# Altium footprint library Type-C.PcbLib: 15 footprints
Each footprint in its own frame and in the unit in brackets; x right, y up, seen from the top. Pads: shape width x height; smd on the part's side, far side on the other; paste and mask are expansions set on the pad; w line width, h text height; cw(c..) or ccw(c..) is an arc to the next point about the centre after c.
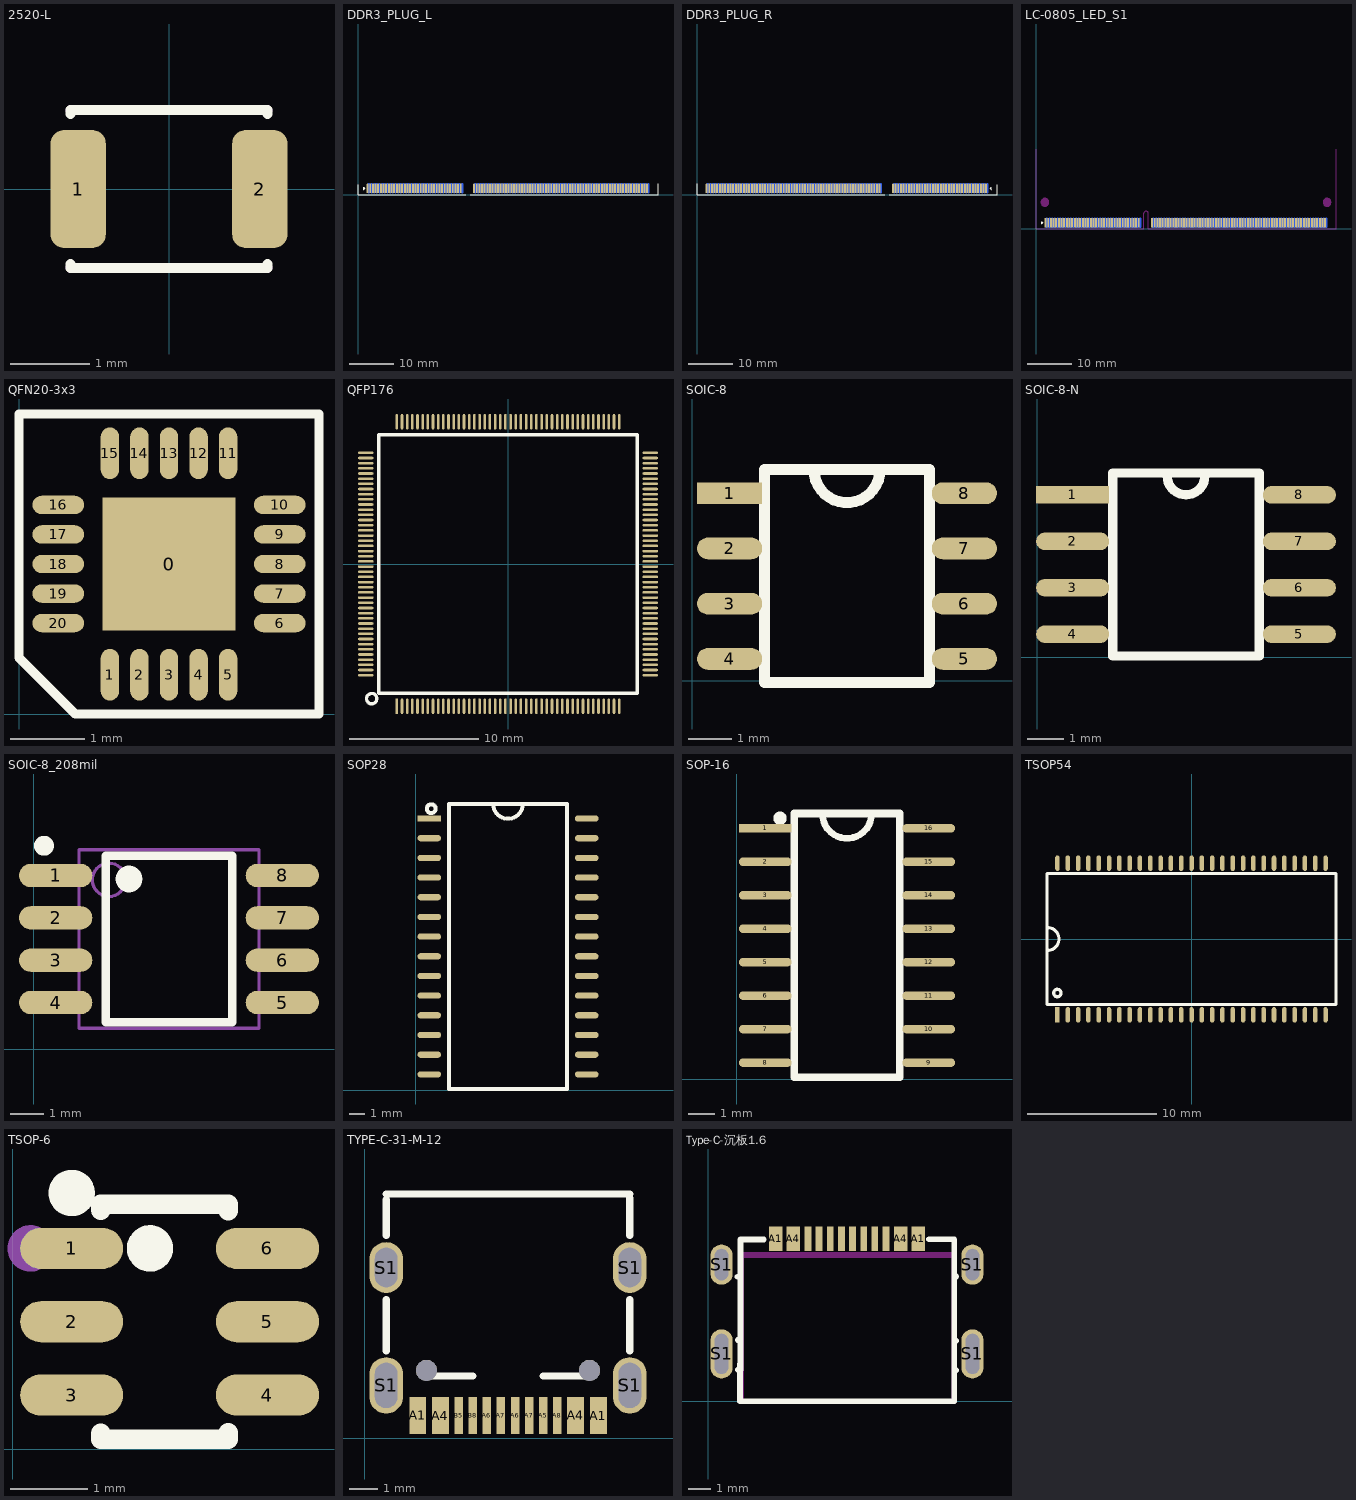
[diagram p0: the footprints below, top view; thin cyan lines are the x and y axes]

## 2520-L [mm]
height 0.8
pads (2):
  rrect50% 0.7x1.5 smd: 1(-1.15,0) 2(1.15,0)
Top Overlay:
  lines w0.127: -1.25,-0.95 -1.25,-1 1.25,-1 1.25,-0.95 ; -1.25,0.95 -1.25,1 1.25,1 1.25,0.95
Mechanical 1:
  lines w0.127: -1.25,-1 1.25,-1 ; -1.25,1 1.25,1
3D body "User Library-Chip InductorINDC2012X95N.STEP": height 0.92, standoff -0.03, extent -1,-0.6 1,0.6

## DDR3_PLUG_L [mm]
height 14.8
pads (204):
  oct 0.43x2.2 smd: 1(2.15,1.4) 3(2.75,1.4) 5(3.35,1.4) 7(3.95,1.4) 9(4.55,1.4) 11(5.15,1.4) 13(5.75,1.4) 15(6.35,1.4) 17(6.95,1.4) 19(7.55,1.4) 21(8.15,1.4) 23(8.75,1.4) 25(9.35,1.4) 27(9.95,1.4) 29(10.55,1.4) 31(11.15,1.4) 33(11.75,1.4) 35(12.35,1.4) 37(12.95,1.4) 39(13.55,1.4) 41(14.15,1.4) 43(14.75,1.4) 45(15.35,1.4) 47(15.95,1.4) 49(16.55,1.4) 51(17.15,1.4) 53(17.75,1.4) 55(18.35,1.4) 57(18.95,1.4) 59(19.55,1.4) 61(20.15,1.4) 63(20.75,1.4) 65(21.35,1.4) 67(21.95,1.4) 69(22.55,1.4) 71(23.15,1.4) 73(26.15,1.4) 75(26.75,1.4) 77(27.35,1.4) 79(27.95,1.4) 81(28.55,1.4) 83(29.15,1.4) 85(29.75,1.4) 87(30.35,1.4) 89(30.95,1.4) 91(31.55,1.4) 93(32.15,1.4) 95(32.75,1.4) 97(33.35,1.4) 99(33.95,1.4) 101(34.55,1.4) 103(35.15,1.4) 105(35.75,1.4) 107(36.35,1.4) 109(36.95,1.4) 111(37.55,1.4) 113(38.15,1.4) 115(38.75,1.4) 117(39.35,1.4) 119(39.95,1.4) 121(40.55,1.4) 123(41.15,1.4) 125(41.75,1.4) 127(42.35,1.4) 129(42.95,1.4) 131(43.55,1.4) 133(44.15,1.4) 135(44.75,1.4) 137(45.35,1.4) 139(45.95,1.4) 141(46.55,1.4) 143(47.15,1.4) 145(47.75,1.4) 147(48.35,1.4) 149(48.95,1.4) 151(49.55,1.4) 153(50.15,1.4) 155(50.75,1.4) 157(51.35,1.4) 159(51.95,1.4) 161(52.55,1.4) 163(53.15,1.4) 165(53.75,1.4) 167(54.35,1.4) 169(54.95,1.4) 171(55.55,1.4) 173(56.15,1.4) 175(56.75,1.4) 177(57.35,1.4) 179(57.95,1.4) 181(58.55,1.4) 183(59.15,1.4) 185(59.75,1.4) 187(60.35,1.4) 189(60.95,1.4) 191(61.55,1.4) 193(62.15,1.4) 195(62.75,1.4) 197(63.35,1.4) 199(63.95,1.4) 201(64.55,1.4) 203(65.15,1.4)
  oct 0.43x2.2 smd far side: 2(2.45,1.4) 4(3.05,1.4) 6(3.65,1.4) 8(4.25,1.4) 10(4.85,1.4) 12(5.45,1.4) 14(6.05,1.4) 16(6.65,1.4) 18(7.25,1.4) 20(7.85,1.4) 22(8.45,1.4) 24(9.05,1.4) 26(9.65,1.4) 28(10.25,1.4) 30(10.85,1.4) 32(11.45,1.4) 34(12.05,1.4) 36(12.65,1.4) 38(13.25,1.4) 40(13.85,1.4) 42(14.45,1.4) 44(15.05,1.4) 46(15.65,1.4) 48(16.25,1.4) 50(16.85,1.4) 52(17.45,1.4) 54(18.05,1.4) 56(18.65,1.4) 58(19.25,1.4) 60(19.85,1.4) 62(20.45,1.4) 64(21.05,1.4) 66(21.65,1.4) 68(22.25,1.4) 70(22.85,1.4) 72(23.45,1.4) 74(26.45,1.4) 76(27.05,1.4) 78(27.65,1.4) 80(28.25,1.4) 82(28.85,1.4) 84(29.45,1.4) 86(30.05,1.4) 88(30.65,1.4) 90(31.25,1.4) 92(31.85,1.4) 94(32.45,1.4) 96(33.05,1.4) 98(33.65,1.4) 100(34.25,1.4) 102(34.85,1.4) 104(35.45,1.4) 106(36.05,1.4) 108(36.65,1.4) 110(37.25,1.4) 112(37.85,1.4) 114(38.45,1.4) 116(39.05,1.4) 118(39.65,1.4) 120(40.25,1.4) 122(40.85,1.4) 124(41.45,1.4) 126(42.05,1.4) 128(42.65,1.4) 130(43.25,1.4) 132(43.85,1.4) 134(44.45,1.4) 136(45.05,1.4) 138(45.65,1.4) 140(46.25,1.4) 142(46.85,1.4) 144(47.45,1.4) 146(48.05,1.4) 148(48.65,1.4) 150(49.25,1.4) 152(49.85,1.4) 154(50.45,1.4) 156(51.05,1.4) 158(51.65,1.4) 160(52.25,1.4) 162(52.85,1.4) 164(53.45,1.4) 166(54.05,1.4) 168(54.65,1.4) 170(55.25,1.4) 172(55.85,1.4) 174(56.45,1.4) 176(57.05,1.4) 178(57.65,1.4) 180(58.25,1.4) 182(58.85,1.4) 184(59.45,1.4) 186(60.05,1.4) 188(60.65,1.4) 190(61.25,1.4) 192(61.85,1.4) 194(62.45,1.4) 196(63.05,1.4) 198(63.65,1.4) 200(64.25,1.4) 202(64.85,1.4) 204(65.45,1.4)
Top Overlay:
  lines w0.254: 0,2.184 0,0 24.3,0 ; 25.3,0 67.6,0 67.6,2.453 ; 1.245,1.118 1.524,1.397 1.245,1.676 1.245,1.118

## DDR3_PLUG_R [mm]
height 14.8
pads (204):
  oct 0.43x2.2 smd far side: 1(65.45,1.4) 3(64.85,1.4) 5(64.25,1.4) 7(63.65,1.4) 9(63.05,1.4) 11(62.45,1.4) 13(61.85,1.4) 15(61.25,1.4) 17(60.65,1.4) 19(60.05,1.4) 21(59.45,1.4) 23(58.85,1.4) 25(58.25,1.4) 27(57.65,1.4) 29(57.05,1.4) 31(56.45,1.4) 33(55.85,1.4) 35(55.25,1.4) 37(54.65,1.4) 39(54.05,1.4) 41(53.45,1.4) 43(52.85,1.4) 45(52.25,1.4) 47(51.65,1.4) 49(51.05,1.4) 51(50.45,1.4) 53(49.85,1.4) 55(49.25,1.4) 57(48.65,1.4) 59(48.05,1.4) 61(47.45,1.4) 63(46.85,1.4) 65(46.25,1.4) 67(45.65,1.4) 69(45.05,1.4) 71(44.45,1.4) 73(41.45,1.4) 75(40.85,1.4) 77(40.25,1.4) 79(39.65,1.4) 81(39.05,1.4) 83(38.45,1.4) 85(37.85,1.4) 87(37.25,1.4) 89(36.65,1.4) 91(36.05,1.4) 93(35.45,1.4) 95(34.85,1.4) 97(34.25,1.4) 99(33.65,1.4) 101(33.05,1.4) 103(32.45,1.4) 105(31.85,1.4) 107(31.25,1.4) 109(30.65,1.4) 111(30.05,1.4) 113(29.45,1.4) 115(28.85,1.4) 117(28.25,1.4) 119(27.65,1.4) 121(27.05,1.4) 123(26.45,1.4) 125(25.85,1.4) 127(25.25,1.4) 129(24.65,1.4) 131(24.05,1.4) 133(23.45,1.4) 135(22.85,1.4) 137(22.25,1.4) 139(21.65,1.4) 141(21.05,1.4) 143(20.45,1.4) 145(19.85,1.4) 147(19.25,1.4) 149(18.65,1.4) 151(18.05,1.4) 153(17.45,1.4) 155(16.85,1.4) 157(16.25,1.4) 159(15.65,1.4) 161(15.05,1.4) 163(14.45,1.4) 165(13.85,1.4) 167(13.25,1.4) 169(12.65,1.4) 171(12.05,1.4) 173(11.45,1.4) 175(10.85,1.4) 177(10.25,1.4) 179(9.65,1.4) 181(9.05,1.4) 183(8.45,1.4) 185(7.85,1.4) 187(7.25,1.4) 189(6.65,1.4) 191(6.05,1.4) 193(5.45,1.4) 195(4.85,1.4) 197(4.25,1.4) 199(3.65,1.4) 201(3.05,1.4) 203(2.45,1.4)
  oct 0.43x2.2 smd: 2(65.15,1.4) 4(64.55,1.4) 6(63.95,1.4) 8(63.35,1.4) 10(62.75,1.4) 12(62.15,1.4) 14(61.55,1.4) 16(60.95,1.4) 18(60.35,1.4) 20(59.75,1.4) 22(59.15,1.4) 24(58.55,1.4) 26(57.95,1.4) 28(57.35,1.4) 30(56.75,1.4) 32(56.15,1.4) 34(55.55,1.4) 36(54.95,1.4) 38(54.35,1.4) 40(53.75,1.4) 42(53.15,1.4) 44(52.55,1.4) 46(51.95,1.4) 48(51.35,1.4) 50(50.75,1.4) 52(50.15,1.4) 54(49.55,1.4) 56(48.95,1.4) 58(48.35,1.4) 60(47.75,1.4) 62(47.15,1.4) 64(46.55,1.4) 66(45.95,1.4) 68(45.35,1.4) 70(44.75,1.4) 72(44.15,1.4) 74(41.15,1.4) 76(40.55,1.4) 78(39.95,1.4) 80(39.35,1.4) 82(38.75,1.4) 84(38.15,1.4) 86(37.55,1.4) 88(36.95,1.4) 90(36.35,1.4) 92(35.75,1.4) 94(35.15,1.4) 96(34.55,1.4) 98(33.95,1.4) 100(33.35,1.4) 102(32.75,1.4) 104(32.15,1.4) 106(31.55,1.4) 108(30.95,1.4) 110(30.35,1.4) 112(29.75,1.4) 114(29.15,1.4) 116(28.55,1.4) 118(27.95,1.4) 120(27.35,1.4) 122(26.75,1.4) 124(26.15,1.4) 126(25.55,1.4) 128(24.95,1.4) 130(24.35,1.4) 132(23.75,1.4) 134(23.15,1.4) 136(22.55,1.4) 138(21.95,1.4) 140(21.35,1.4) 142(20.75,1.4) 144(20.15,1.4) 146(19.55,1.4) 148(18.95,1.4) 150(18.35,1.4) 152(17.75,1.4) 154(17.15,1.4) 156(16.55,1.4) 158(15.95,1.4) 160(15.35,1.4) 162(14.75,1.4) 164(14.15,1.4) 166(13.55,1.4) 168(12.95,1.4) 170(12.35,1.4) 172(11.75,1.4) 174(11.15,1.4) 176(10.55,1.4) 178(9.95,1.4) 180(9.35,1.4) 182(8.75,1.4) 184(8.15,1.4) 186(7.55,1.4) 188(6.95,1.4) 190(6.35,1.4) 192(5.75,1.4) 194(5.15,1.4) 196(4.55,1.4) 198(3.95,1.4) 200(3.35,1.4) 202(2.75,1.4) 204(2.15,1.4)
Top Overlay:
  lines w0.254: 0,2.453 0,0 42.3,0 ; 43.3,0 67.6,0 67.6,2.184 ; 66.076,1.397 66.355,1.676 66.355,1.118 66.076,1.397

## LC-0805_LED_S1 [mm]
height 14.8
pads (204):
  oct 0.43x2.2 smd: 1(2.15,1.4) 3(2.75,1.4) 5(3.35,1.4) 7(3.95,1.4) 9(4.55,1.4) 11(5.15,1.4) 13(5.75,1.4) 15(6.35,1.4) 17(6.95,1.4) 19(7.55,1.4) 21(8.15,1.4) 23(8.75,1.4) 25(9.35,1.4) 27(9.95,1.4) 29(10.55,1.4) 31(11.15,1.4) 33(11.75,1.4) 35(12.35,1.4) 37(12.95,1.4) 39(13.55,1.4) 41(14.15,1.4) 43(14.75,1.4) 45(15.35,1.4) 47(15.95,1.4) 49(16.55,1.4) 51(17.15,1.4) 53(17.75,1.4) 55(18.35,1.4) 57(18.95,1.4) 59(19.55,1.4) 61(20.15,1.4) 63(20.75,1.4) 65(21.35,1.4) 67(21.95,1.4) 69(22.55,1.4) 71(23.15,1.4) 73(26.15,1.4) 75(26.75,1.4) 77(27.35,1.4) 79(27.95,1.4) 81(28.55,1.4) 83(29.15,1.4) 85(29.75,1.4) 87(30.35,1.4) 89(30.95,1.4) 91(31.55,1.4) 93(32.15,1.4) 95(32.75,1.4) 97(33.35,1.4) 99(33.95,1.4) 101(34.55,1.4) 103(35.15,1.4) 105(35.75,1.4) 107(36.35,1.4) 109(36.95,1.4) 111(37.55,1.4) 113(38.15,1.4) 115(38.75,1.4) 117(39.35,1.4) 119(39.95,1.4) 121(40.55,1.4) 123(41.15,1.4) 125(41.75,1.4) 127(42.35,1.4) 129(42.95,1.4) 131(43.55,1.4) 133(44.15,1.4) 135(44.75,1.4) 137(45.35,1.4) 139(45.95,1.4) 141(46.55,1.4) 143(47.15,1.4) 145(47.75,1.4) 147(48.35,1.4) 149(48.95,1.4) 151(49.55,1.4) 153(50.15,1.4) 155(50.75,1.4) 157(51.35,1.4) 159(51.95,1.4) 161(52.55,1.4) 163(53.15,1.4) 165(53.75,1.4) 167(54.35,1.4) 169(54.95,1.4) 171(55.55,1.4) 173(56.15,1.4) 175(56.75,1.4) 177(57.35,1.4) 179(57.95,1.4) 181(58.55,1.4) 183(59.15,1.4) 185(59.75,1.4) 187(60.35,1.4) 189(60.95,1.4) 191(61.55,1.4) 193(62.15,1.4) 195(62.75,1.4) 197(63.35,1.4) 199(63.95,1.4) 201(64.55,1.4) 203(65.15,1.4)
  oct 0.43x2.2 smd far side: 2(2.45,1.4) 4(3.05,1.4) 6(3.65,1.4) 8(4.25,1.4) 10(4.85,1.4) 12(5.45,1.4) 14(6.05,1.4) 16(6.65,1.4) 18(7.25,1.4) 20(7.85,1.4) 22(8.45,1.4) 24(9.05,1.4) 26(9.65,1.4) 28(10.25,1.4) 30(10.85,1.4) 32(11.45,1.4) 34(12.05,1.4) 36(12.65,1.4) 38(13.25,1.4) 40(13.85,1.4) 42(14.45,1.4) 44(15.05,1.4) 46(15.65,1.4) 48(16.25,1.4) 50(16.85,1.4) 52(17.45,1.4) 54(18.05,1.4) 56(18.65,1.4) 58(19.25,1.4) 60(19.85,1.4) 62(20.45,1.4) 64(21.05,1.4) 66(21.65,1.4) 68(22.25,1.4) 70(22.85,1.4) 72(23.45,1.4) 74(26.45,1.4) 76(27.05,1.4) 78(27.65,1.4) 80(28.25,1.4) 82(28.85,1.4) 84(29.45,1.4) 86(30.05,1.4) 88(30.65,1.4) 90(31.25,1.4) 92(31.85,1.4) 94(32.45,1.4) 96(33.05,1.4) 98(33.65,1.4) 100(34.25,1.4) 102(34.85,1.4) 104(35.45,1.4) 106(36.05,1.4) 108(36.65,1.4) 110(37.25,1.4) 112(37.85,1.4) 114(38.45,1.4) 116(39.05,1.4) 118(39.65,1.4) 120(40.25,1.4) 122(40.85,1.4) 124(41.45,1.4) 126(42.05,1.4) 128(42.65,1.4) 130(43.25,1.4) 132(43.85,1.4) 134(44.45,1.4) 136(45.05,1.4) 138(45.65,1.4) 140(46.25,1.4) 142(46.85,1.4) 144(47.45,1.4) 146(48.05,1.4) 148(48.65,1.4) 150(49.25,1.4) 152(49.85,1.4) 154(50.45,1.4) 156(51.05,1.4) 158(51.65,1.4) 160(52.25,1.4) 162(52.85,1.4) 164(53.45,1.4) 166(54.05,1.4) 168(54.65,1.4) 170(55.25,1.4) 172(55.85,1.4) 174(56.45,1.4) 176(57.05,1.4) 178(57.65,1.4) 180(58.25,1.4) 182(58.85,1.4) 184(59.45,1.4) 186(60.05,1.4) 188(60.65,1.4) 190(61.25,1.4) 192(61.85,1.4) 194(62.45,1.4) 196(63.05,1.4) 198(63.65,1.4) 200(64.25,1.4) 202(64.85,1.4) 204(65.45,1.4)
Top Overlay:
  lines w0.254: 1.245,1.118 1.245,1.676 1.524,1.397 1.245,1.118
Keep-Out Layer:
  board cut-out: 65.6,5.1 65.511,5.1 65.337,5.135 65.174,5.202 65.026,5.301 64.901,5.426 64.802,5.574 64.735,5.737 64.7,5.911 64.7,6 64.7,6.089 64.735,6.263 64.802,6.426 64.901,6.574 65.026,6.699 65.174,6.798 65.337,6.865 65.511,6.9 65.6,6.9 65.689,6.9 65.863,6.865 66.026,6.798 66.174,6.699 66.299,6.574 66.398,6.426 66.465,6.263 66.5,6.089 66.5,6 66.5,5.911 66.465,5.737 66.398,5.574 66.299,5.426 66.174,5.301 66.026,5.202 65.863,5.135 65.689,5.1
  board cut-out: 2,5.1 1.911,5.1 1.737,5.135 1.574,5.202 1.426,5.301 1.301,5.426 1.202,5.574 1.135,5.737 1.1,5.911 1.1,6 1.1,6.089 1.135,6.263 1.202,6.426 1.301,6.574 1.426,6.699 1.574,6.798 1.737,6.865 1.911,6.9 2,6.9 2.089,6.9 2.263,6.865 2.426,6.798 2.574,6.699 2.699,6.574 2.798,6.426 2.865,6.263 2.9,6.089 2.9,6 2.9,5.911 2.865,5.737 2.798,5.574 2.699,5.426 2.574,5.301 2.426,5.202 2.263,5.135 2.089,5.1
Keep-Out Layer:
  circle w0.254: c65.6,6 r0.9
  circle w0.254: c2,6 r0.9
  lines w0.254: 0,18 0,0 24.3,0 24.3,3.5 cw(c24.8,3.5) 25.3,3.5 25.3,0 67.6,0 67.6,18

## QFN20-3x3 [mm]
pads (21):
  rect 1.8x1.8 smd: 0(2.032,2.032)
  oval 0.25x0.7 smd: 1(1.232,0.532) 2(1.632,0.532) 3(2.032,0.532) 4(2.432,0.532) 5(2.832,0.532) 11(2.832,3.532) 12(2.432,3.532) 13(2.032,3.532) 14(1.632,3.532) 15(1.232,3.532)
  oval 0.7x0.25 smd: 6(3.532,1.232) 7(3.532,1.632) 8(3.532,2.032) 9(3.532,2.432) 10(3.532,2.832) 16(0.532,2.832) 17(0.532,2.432) 18(0.532,2.032) 19(0.532,1.632) 20(0.532,1.232)
Top Overlay:
  lines w0.127: 0,0.762 0.762,0 4.064,0 4.064,4.064 0,4.064 0,0.762
Mechanical 15:
  lines w0.1: 1.532,2.032 2.532,2.032 ; 2.032,1.532 2.032,2.532

## QFP176 [mm] "body长宽20mm，引脚长宽22mm,脚间距0.4mm"
height 1.6
pads (176):
  rect 0.2x1.2 smd: 1(-8.6,-11)
  oval 0.2x1.2 smd: 2(-8.2,-11) 3(-7.8,-11) 4(-7.4,-11) 5(-7,-11) 6(-6.6,-11) 7(-6.2,-11) 8(-5.8,-11) 9(-5.4,-11) 10(-5,-11) 11(-4.6,-11) 12(-4.2,-11) 13(-3.8,-11) 14(-3.4,-11) 15(-3,-11) 16(-2.6,-11) 17(-2.2,-11) 18(-1.8,-11) 19(-1.4,-11) 20(-1,-11) 21(-0.6,-11) 22(-0.2,-11) 23(0.2,-11) 24(0.6,-11) 25(1,-11) 26(1.4,-11) 27(1.8,-11) 28(2.2,-11) 29(2.6,-11) 30(3,-11) 31(3.4,-11) 32(3.8,-11) 33(4.2,-11) 34(4.6,-11) 35(5,-11) 36(5.4,-11) 37(5.8,-11) 38(6.2,-11) 39(6.6,-11) 40(7,-11) 41(7.4,-11) 42(7.8,-11) 43(8.2,-11) 44(8.6,-11) 89(8.6,11) 90(8.2,11) 91(7.8,11) 92(7.4,11) 93(7,11) 94(6.6,11) 95(6.2,11) 96(5.8,11) 97(5.4,11) 98(5,11) 99(4.6,11) 100(4.2,11) 101(3.8,11) 102(3.4,11) 103(3,11) 104(2.6,11) 105(2.2,11) 106(1.8,11) 107(1.4,11) 108(1,11) 109(0.6,11) 110(0.2,11) 111(-0.2,11) 112(-0.6,11) 113(-1,11) 114(-1.4,11) 115(-1.8,11) 116(-2.2,11) 117(-2.6,11) 118(-3,11) 119(-3.4,11) 120(-3.8,11) 121(-4.2,11) 122(-4.6,11) 123(-5,11) 124(-5.4,11) 125(-5.8,11) 126(-6.2,11) 127(-6.6,11) 128(-7,11) 129(-7.4,11) 130(-7.8,11) 131(-8.2,11) 132(-8.6,11)
  oval 1.2x0.2 smd: 45(11,-8.6) 46(11,-8.2) 47(11,-7.8) 48(11,-7.4) 49(11,-7) 50(11,-6.6) 51(11,-6.2) 52(11,-5.8) 53(11,-5.4) 54(11,-5) 55(11,-4.6) 56(11,-4.2) 57(11,-3.8) 58(11,-3.4) 59(11,-3) 60(11,-2.6) 61(11,-2.2) 62(11,-1.8) 63(11,-1.4) 64(11,-1) 65(11,-0.6) 66(11,-0.2) 67(11,0.2) 68(11,0.6) 69(11,1) 70(11,1.4) 71(11,1.8) 72(11,2.2) 73(11,2.6) 74(11,3) 75(11,3.4) 76(11,3.8) 77(11,4.2) 78(11,4.6) 79(11,5) 80(11,5.4) 81(11,5.8) 82(11,6.2) 83(11,6.6) 84(11,7) 85(11,7.4) 86(11,7.8) 87(11,8.2) 88(11,8.6) 133(-11,8.6) 134(-11,8.2) 135(-11,7.8) 136(-11,7.4) 137(-11,7) 138(-11,6.6) 139(-11,6.2) 140(-11,5.8) 141(-11,5.4) 142(-11,5) 143(-11,4.6) 144(-11,4.2) 145(-11,3.8) 146(-11,3.4) 147(-11,3) 148(-11,2.6) 149(-11,2.2) 150(-11,1.8) 151(-11,1.4) 152(-11,1) 153(-11,0.6) 154(-11,0.2) 155(-11,-0.2) 156(-11,-0.6) 157(-11,-1) 158(-11,-1.4) 159(-11,-1.8) 160(-11,-2.2) 161(-11,-2.6) 162(-11,-3) 163(-11,-3.4) 164(-11,-3.8) 165(-11,-4.2) 166(-11,-4.6) 167(-11,-5) 168(-11,-5.4) 169(-11,-5.8) 170(-11,-6.2) 171(-11,-6.6) 172(-11,-7) 173(-11,-7.4) 174(-11,-7.8) 175(-11,-8.2) 176(-11,-8.6)
Top Overlay:
  circle w0.254: c-10.541,-10.414 r0.402
  lines w0.254: -10,-10 -10,10 10,10 10,-10 -10,-10
3D body: height 1.6, standoff 0.1, extent -10.033,-10.033 10.033,10.033

## SOIC-8 [mm] "长4.9mm,宽5.4mm,高2mm"
height 2
pads (8):
  rect 1.5x0.5 smd: 1(0.856,4.318)
  oval 1.5x0.5 smd: 2(0.856,3.048) 3(0.856,1.778) 4(0.856,0.508) 5(6.256,0.508) 6(6.256,1.778) 7(6.256,3.048) 8(6.256,4.318)
Top Overlay:
  lines w0.254: 2.796,4.863 ccw(c3.556,4.863) 4.316,4.863 ; 1.656,-0.037 5.456,-0.037 5.456,4.863 1.656,4.863 1.656,-0.037
3D body: height 1, standoff 0.2, extent 5.334,4.064 6.223,4.572
3D body: height 1, standoff 0.2, extent 5.334,2.794 6.223,3.302
3D body: height 1, standoff 0.2, extent 5.334,1.524 6.223,2.032
3D body: height 1, standoff 0.2, extent 5.334,0.254 6.223,0.762
3D body: height 1, standoff 0.2, extent 0.762,0.254 1.651,0.762
3D body: height 1, standoff 0.2, extent 0.762,1.524 1.651,2.032
3D body: height 1, standoff 0.2, extent 0.762,2.794 1.651,3.302
3D body: height 1, standoff 0.2, extent 0.762,4.064 1.651,4.572
3D body: height 2, standoff 0.2, extent 1.651,-0.127 5.461,4.953

## SOIC-8-N [mm] "长5mm，宽6.2mm，高1.75mm，脚间距1.27mm"
height 1.27
pads (8):
  rect 2x0.48 smd: 1(0.964,4.445)
  oval 2x0.48 smd: 2(0.964,3.175) 3(0.964,1.905) 4(0.964,0.635) 5(7.164,0.635) 6(7.164,1.905) 7(7.164,3.175) 8(7.164,4.445)
Top Overlay:
  lines w0.254: 3.556,5.04 ccw(c4.064,4.959) 4.572,5.04 ; 2.064,0.04 6.064,0.04 6.064,5.04 2.064,5.04 2.064,0.04
3D body: height 1, standoff 0.2, extent 0.889,4.191 2.032,4.699
3D body: height 1, standoff 0.2, extent 0.889,2.921 2.032,3.429
3D body: height 1, standoff 0.2, extent 0.889,1.651 2.032,2.159
3D body: height 1, standoff 0.2, extent 0.889,0.381 2.032,0.889
3D body: height 1, standoff 0.2, extent 6.096,0.381 7.239,0.889
3D body: height 1, standoff 0.2, extent 6.096,1.651 7.239,2.159
3D body: height 1, standoff 0.2, extent 6.096,2.921 7.239,3.429
3D body: height 1, standoff 0.2, extent 6.096,4.191 7.239,4.699
3D body: height 1.27, standoff 0.2, extent 2.032,0 6.096,5.08

## SOIC-8_208mil [mm]
pads (8):
  oval 2.2x0.7 smd: 1(0.664,5.207) 2(0.664,3.937) 3(0.664,2.667) 4(0.664,1.397) 5(7.464,1.397) 6(7.464,2.667) 7(7.464,3.937) 8(7.464,5.207)
Top Overlay:
  circle w0.4: c2.864,5.102 r0.2
  circle w0.3: c0.314,6.099 r0.15
  lines w0.254: 2.164,0.802 2.164,5.802 5.964,5.802 5.964,0.802 2.164,0.802
Mechanical 13:
  circle w0.1: c2.264,5.077 r0.5
  lines w0.1: 1.364,0.627 1.364,5.977 6.764,5.977 6.764,0.627 1.364,0.627
3D body "User Library-IPC SOSOIC127P780X200-8N 8 SO PS.STEP": height 2.15, standoff 0, extent 0.136,0.052 7.992,6.552

## SOP28 [mil] "body  18.4*7.62mm,引脚 18.4*10.16mm，脚间距1.27mm"
height 23.62
pads (28):
  rect 60x15.75 smd: 1(35,690)
  oval 60x15.75 smd: 2(35,640) 3(35,590) 4(35,540) 5(35,490) 6(35,440) 7(35,390) 8(35,340) 9(35,290) 10(35,240) 11(35,190) 12(35,140) 13(35,90) 14(35,40) 15(435,40) 16(435,90) 17(435,140) 18(435,190) 19(435,240) 20(435,290) 21(435,340) 22(435,390) 23(435,440) 24(435,490) 25(435,540) 26(435,590) 27(435,640) 28(435,690)
Top Overlay:
  circle w10: c40,715 r11.18
  lines w10: 197.2,727.2 ccw(c235,727.2) 272.8,727.2 ; 85,2.8 385,2.8 385,727.2 85,727.2 85,2.8
3D body: height 100, standoff 3.94, extent 85,0 385,725

## SOP-16 [mm] "BODY长10mm，宽3.9mm，脚间距1.27mm，引脚宽度0.33mm，引脚最宽6.2mm"
height 1.75
pads (16):
  rect 2x0.33 smd: 1(1.091,9.525)
  oval 2x0.33 smd: 2(1.091,8.255) 3(1.091,6.985) 4(1.091,5.715) 5(1.091,4.445) 6(1.091,3.175) 7(1.091,1.905) 8(1.091,0.635) 9(7.291,0.635) 10(7.291,1.905) 11(7.291,3.175) 12(7.291,4.445) 13(7.291,5.715) 14(7.291,6.985) 15(7.291,8.255) 16(7.291,9.525)
Top Overlay:
  circle w0.254: c1.651,9.906 r0.127
  lines w0.254: 3.255,10.08 ccw(c4.191,10.08) 5.127,10.08
  lines w0.3: 2.191,0.08 2.191,10.08 6.191,10.08 6.191,0.08 2.191,0.08
3D body: height 1.75, standoff 0.1, extent 2.159,0.127 6.223,10.033

## TSOP54 [mm] "body 长宽22.22mm*10.16mm，引脚长宽22.22mm*11.76mm，脚间距0.8mm"
height 1.2
pads (54):
  rect 0.35x1.2 smd: 1(-10.4,-5.88)
  oval 0.35x1.2 smd: 2(-9.6,-5.88) 3(-8.8,-5.88) 4(-8,-5.88) 5(-7.2,-5.88) 6(-6.4,-5.88) 7(-5.6,-5.88) 8(-4.8,-5.88) 9(-4,-5.88) 10(-3.2,-5.88) 11(-2.4,-5.88) 12(-1.6,-5.88) 13(-0.8,-5.88) 14(0,-5.88) 15(0.8,-5.88) 16(1.6,-5.88) 17(2.4,-5.88) 18(3.2,-5.88) 19(4,-5.88) 20(4.8,-5.88) 21(5.6,-5.88) 22(6.4,-5.88) 23(7.2,-5.88) 24(8,-5.88) 25(8.8,-5.88) 26(9.6,-5.88) 27(10.4,-5.88) 28(10.4,5.88) 29(9.6,5.88) 30(8.8,5.88) 31(8,5.88) 32(7.2,5.88) 33(6.4,5.88) 34(5.6,5.88) 35(4.8,5.88) 36(4,5.88) 37(3.2,5.88) 38(2.4,5.88) 39(1.6,5.88) 40(0.8,5.88) 41(0,5.88) 42(-0.8,5.88) 43(-1.6,5.88) 44(-2.4,5.88) 45(-3.2,5.88) 46(-4,5.88) 47(-4.8,5.88) 48(-5.6,5.88) 49(-6.4,5.88) 50(-7.2,5.88) 51(-8,5.88) 52(-8.8,5.88) 53(-9.6,5.88) 54(-10.4,5.88)
Top Overlay:
  circle w0.254: c-10.414,-4.191 r0.288
  lines w0.254: -11.21,-0.889 ccw(c-11.176,0) -11.21,0.889 ; -11.21,-5.08 -11.21,5.08 11.21,5.08 11.21,-5.08 -11.21,-5.08
3D body: height 1.2, standoff 0.1, extent -11.176,-5.08 11.176,5.08

## TSOP-6 [mm]
pads (6):
  oval 1.336x0.532 smd: 1(0.764,2.601) 2(0.764,1.651) 3(0.764,0.701) 4(3.3,0.701) 5(3.3,1.651) 6(3.3,2.601)
Top Overlay:
  circle w0.3: c1.778,2.601 r0.15
  circle w0.3: c0.764,3.319 r0.15
  lines w0.254: 1.143,0.204 1.143,0.127 2.794,0.127 2.794,0.215 ; 1.143,3.098 1.143,3.175 2.794,3.175 2.794,3.087
Mechanical 15:
  circle w0.3: c0.232,2.601 r0.15

## TYPE-C-31-M-12 [mm] "Type-C母座"
pads (18):
  rect 0.6x1.3 smd: A1(1.88,0.805) A1(8.285,0.805) A4(2.684,0.805) A4(7.48,0.805)
  rect 0.3x1.3 smd: A5(6.33,0.805) A6(4.33,0.805) A6(5.33,0.805) A7(4.83,0.805) A7(5.83,0.805) A8(6.83,0.805) B5(3.33,0.805) B8(3.83,0.805)
  oval 1.2x2 hole 0.8 slot 1.6 at 90 deg: S1(0.76,1.873) S1(9.4,1.873)
  oval 1.2x1.8 hole 0.8 slot 1.4 at 90 deg: S1(0.76,6.053) S1(9.4,6.053)
  round 0.75 hole 0.75 unplated: ""(2.19,2.403) ""(7.97,2.403)
Top Overlay:
  lines w0.254: 0.76,3.104 0.76,4.922 ; 0.76,7.184 0.76,8.469 ; 0.76,8.656 9.4,8.656 ; 2.083,2.205 3.833,2.205 ; 6.33,2.208 8.08,2.208 ; 9.4,3.104 9.4,4.922 ; 9.4,7.184 9.4,8.52
Top Paste:
  region: 0.16,5.969 0.161,5.97 0.161,6.359 0.161,6.477 0.251,6.694 0.418,6.861 0.635,6.951 0.753,6.951 0.8,6.951 0.911,6.951 1.115,6.866 1.272,6.71 1.356,6.505 1.356,6.395 1.356,6.106 1.358,5.744 1.358,5.627 1.269,5.411 1.103,5.245 0.887,5.155 0.769,5.155 0.735,5.155 0.62,5.155 0.409,5.243 0.247,5.405 0.159,5.616 0.159,5.731 0.159,5.847
  region: 8.8,5.969 8.801,5.97 8.801,6.359 8.801,6.477 8.891,6.694 9.058,6.861 9.275,6.951 9.393,6.951 9.44,6.951 9.551,6.951 9.755,6.866 9.912,6.71 9.996,6.505 9.996,6.395 9.996,6.106 9.999,5.744 9.999,5.627 9.909,5.411 9.743,5.245 9.527,5.155 9.41,5.155 9.375,5.155 9.26,5.155 9.049,5.243 8.887,5.405 8.8,5.616 8.8,5.731 8.8,5.847
  region: 1.359,2.295 1.359,2.409 1.271,2.622 1.109,2.784 0.897,2.872 0.782,2.872 0.756,2.872 0.638,2.872 0.419,2.781 0.252,2.614 0.161,2.395 0.161,2.277 0.161,2.205 0.16,1.451 0.16,1.337 0.248,1.124 0.41,0.962 0.622,0.874 0.737,0.874 0.772,0.874 0.889,0.874 1.104,0.964 1.269,1.128 1.359,1.344 1.359,1.46 1.359,1.513
  region: 9.999,2.295 9.999,2.409 9.911,2.622 9.749,2.784 9.537,2.872 9.422,2.872 9.396,2.872 9.278,2.872 9.059,2.781 8.892,2.614 8.801,2.395 8.801,2.277 8.801,2.205 8.8,1.451 8.8,1.337 8.888,1.124 9.05,0.962 9.262,0.874 9.377,0.874 9.413,0.874 9.529,0.874 9.745,0.964 9.909,1.128 9.999,1.344 9.999,1.46 9.999,1.513

## Type-C-沉板1.6 [mm]
pads (16):
  rect 0.6x1.1 smd: A1(3.023,7.274) A1(9.423,7.274) A4(3.823,7.274) A4(8.623,7.274)
  rect 0.3x1.1 smd: A5(4.973,7.274) A6(5.973,7.274) A6(6.973,7.274) A7(5.473,7.274) A7(6.473,7.274) A8(4.473,7.274) B5(7.973,7.274) B8(7.473,7.274)
  oval 1x2.2 hole 0.61 slot 1.8 at 90 deg: S1(0.603,2.124) S1(11.843,2.124)
  oval 1x1.8 hole 0.61 slot 1.4 at 90 deg: S1(0.603,6.124) S1(11.843,6.124)
Top Overlay:
  lines w0.254: 1.32,5.579 1.453,5.579 ; 1.327,1.419 1.453,1.419 1.453,2.749 ; 1.334,2.749 1.453,2.749 ; 1.433,1.665 1.433,-0.001 10.778,-0.001 ; 2.492,7.249 1.453,7.249 1.453,5.579 ; 9.893,7.259 11.033,7.249 11.033,5.589 ; 10.723,-0.001 11.033,-0.001 11.033,1.399 ; 11.112,2.709 11.033,2.709 ; 11.123,1.399 11.033,1.399 ; 11.124,5.589 11.033,5.589 ; 1.453,2.749 1.453,5.579 ; 11.033,1.399 11.033,2.709 ; 11.033,2.709 11.033,5.589
Keep-Out Layer:
  lines w0.254: 1.473,0.034 1.473,6.554 11.023,6.554 11.023,0.024